# EAGLE library part AB-CON (library ab-expansion-con)
Arduboy expansion connector 12 pin male (Arduboy side) or 12 pin female (expansion cartridge side) Pin 7 is a key pin and should be removed from the pen header
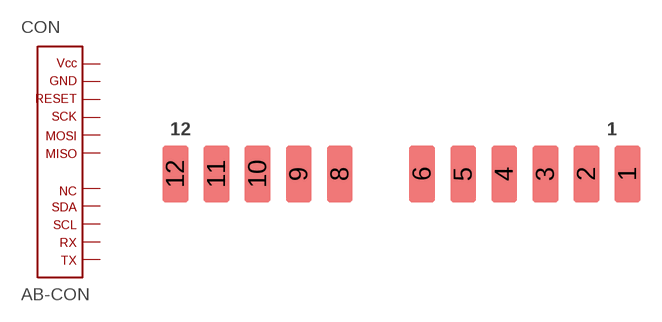
[diagram p0: symbol with the pads of CON-PAC; footprint CON-PAC]

Designator prefix CON

## AB-CON  [CON-PAC]
1  P1  pas
2  P2  pas
3  P3  pas
4  P4  pas
5  P5  pas
6  P6  pas
8  P8  pas
9  P9  pas
10  P10  pas
11  P11  pas
12  P12  pas

## Footprint CON-PAC (pad centres in mm)
smd 1.587 x 3.493: 1 13.97,2.064; 2 11.43,2.064; 3 8.89,2.064; 4 6.35,2.064; 5 3.81,2.064; 6 1.27,2.064; 8 -3.81,2.064; 9 -6.35,2.064; 10 -8.89,2.064; 11 -11.43,2.064; 12 -13.97,2.064